# Altium schematic symbol library USB-Ethernet.SCHLIB: 1 symbol
Pins are listed as number, name and electrical type; pins without a type are passive.

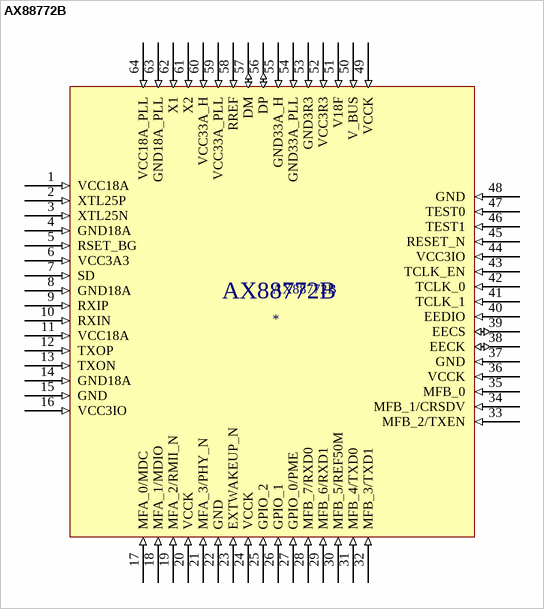
[diagram p0: symbol AX88772B]

## AX88772B
designator AX88772B
footprint AX88772B
pins: 1 VCC18A (in), 2 XTL25P (in), 3 XTL25N (in), 4 GND18A (in), 5 RSET_BG (in), 6 VCC3A3 (in), 7 SD (in), 8 GND18A (in), 9 RXIP (in), 10 RXIN (in), 11 VCC18A (in), 12 TXOP (in), 13 TXON (in), 14 GND18A (in), 15 GND (in), 16 VCC3IO (in), 17 MFA_0/MDC (in), 18 MFA_1/MDIO (in), 19 MFA_2/RMII_N (in), 20 VCCK (in), 21 MFA_3/PHY_N (in), 22 GND (in), 23 EXTWAKEUP_N (in), 24 VCCK (in), 25 GPIO_2 (in), 26 GPIO_1 (in), 27 GPIO_0/PME (in), 28 MFB_7/RXD0 (in), 29 MFB_6/RXD1 (in), 30 MFB_5/REF50M (in), 31 MFB_4/TXD0 (in), 32 MFB_3/TXD1 (in), 33 MFB_2/TXEN (in), 34 MFB_1/CRSDV (in), 35 MFB_0 (in), 36 VCCK (in), 37 GND (in), 38 EECK (io), 39 EECS (io), 40 EEDIO (in), 41 TCLK_1 (in), 42 TCLK_0 (in), 43 TCLK_EN (in), 44 VCC3IO (in), 45 RESET_N (in), 46 TEST1 (in), 47 TEST0 (in), 48 GND (in), 49 VCCK (in), 50 V_BUS (in), 51 V18F (in), 52 VCC3R3 (in), 53 GND3R3 (in), 54 GND33A_PLL (in), 55 GND33A_H (in), 56 DP (io), 57 DM (io), 58 RREF (in), 59 VCC33A_PLL (in), 60 VCC33A_H (in), 61 X2 (in), 62 X1 (in), 63 GND18A_PLL (in), 64 VCC18A_PLL (in)